# EAGLE library part ESP32-MEZZA25-1 (library JLB6_Processor)
ESP32 2x15 footprint for mezzanie card (N=normal, R=reverse) no ground hole, drill 2.5mm
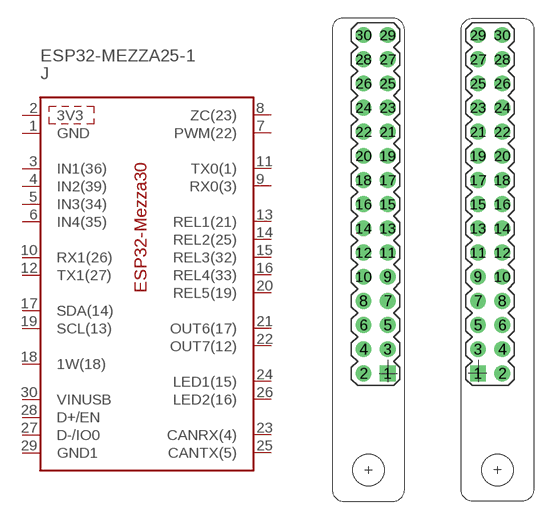
[diagram p42: symbol with the pads of ESP32-MEZZA25-1; footprints ESP32-MEZZA25-1, ESP32-MEZZA25-1R]

Designator prefix J

## ESP32-MEZZA25-1N  [ESP32-MEZZA25-1]
1  GND  pwr
2  3V3
3  IN1(36)
4  IN2(39)
5  IN3(34)
6  IN4(35)
7  PWM(22)
8  ZC(23)
9  RX0(3)
10  RX1(26)
11  TX0(1)
12  TX1(27)
13  REL1(21)
14  REL2(25)
15  REL3(32)
16  REL4(33)
17  SDA(14)
18  1W(18)
19  SCL(13)
20  REL5(19)
21  OUT6(17)
22  OUT7(12)
23  CANRX(4)
24  LED1(15)
25  CANTX(5)
26  LED2(16)
27  D-/IO0
28  D+/EN
29  GND1  pwr
30  VINUSB

## ESP32-MEZZA25-1R  [ESP32-MEZZA25-1R]
Pads as for ESP32-MEZZA25-1

## ESP32-MEZZA25-12  [ESP32-MEZZA25-VR2]
Pads as for ESP32-MEZZA25-1

## ESP32-MEZZA25-13  [ESP32-MEZZA25-VR3]
Pads as for ESP32-MEZZA25-1

## ESP32-MEZZA25-13S  [ESP32-MEZZA25-VR3-SMD]
Pads as for ESP32-MEZZA25-1

## ESP32-MEZZA25-1RNG  [ESP32-MEZZA25-R-NOGND]
Pads as for ESP32-MEZZA25-1

## ESP32-MEZZA25-14S  [ESP32-MEZZA25-VR4-SMD]
Pads as for ESP32-MEZZA25-1

## Footprint ESP32-MEZZA25-1 (pad centres in mm)
drill 0.8 square: 1 0,0
drill 0.8: 2 -2,0; 3 0,2; 4 -2,2; 5 0,4; 6 -2,4; 7 0,6; 8 -2,6; 9 0,8; 10 -2,8; 11 0,10; 12 -2,10; 13 0,12; 14 -2,12; 15 0,14; 16 -2,14; 17 0,16; 18 -2,16; 19 0,18; 20 -2,18; 21 0,20; 22 -2,20; 23 0,22; 24 -2,22; 25 0,24; 26 -2,24; 27 0,26; 28 -2,26; 29 0,28; 30 -2,28
hole 2.6 at -1.6,-8

## Footprint ESP32-MEZZA25-1R (pad centres in mm)
drill 0.8 square: 1 0,0
drill 0.8: 2 2,0; 3 0,2; 4 2,2; 5 0,4; 6 2,4; 7 0,6; 8 2,6; 9 0,8; 10 2,8; 11 0,10; 12 2,10; 13 0,12; 14 2,12; 15 0,14; 16 2,14; 17 0,16; 18 2,16; 19 0,18; 20 2,18; 21 0,20; 22 2,20; 23 0,22; 24 2,22; 25 0,24; 26 2,24; 27 0,26; 28 2,26; 29 0,28; 30 2,28
hole 2.6 at 1.6,-8

## Footprint ESP32-MEZZA25-VR2 (pad centres in mm)
drill 0.8 square: 1 0,0
drill 0.8: 2 -2,0; 3 0,2; 4 -2,2; 5 0,4; 6 -2,4; 7 0,6; 8 -2,6; 9 0,8; 10 -2,8; 11 0,10; 12 -2,10; 13 0,12; 14 -2,12; 15 0,14; 16 -2,14; 17 0,16; 18 -2,16; 19 0,18; 20 -2,18; 21 0,20; 22 -2,20; 23 0,22; 24 -2,22; 25 0,24; 26 -2,24; 27 0,26; 28 -2,26; 29 0,28; 30 -2,28
hole 2.6 at -3.5,-4.6

## Footprint ESP32-MEZZA25-VR3 (pad centres in mm)
drill 0.8 square: 1 0,0
drill 0.8: 2 -2,0; 3 0,2; 4 -2,2; 5 0,4; 6 -2,4; 7 0,6; 8 -2,6; 9 0,8; 10 -2,8; 11 0,10; 12 -2,10; 13 0,12; 14 -2,12; 15 0,14; 16 -2,14; 17 0,16; 18 -2,16; 19 0,18; 20 -2,18; 21 0,20; 22 -2,20; 23 0,22; 24 -2,22; 25 0,24; 26 -2,24; 27 0,26; 28 -2,26; 29 0,28; 30 -2,28
hole 2.6 at -3.5,-4.6

## Footprint ESP32-MEZZA25-VR3-SMD (pad centres in mm)
Mezza smd (obsolete, bad footprint)
smd 2 x 1: 1 1,0; 2 -3,0; 3 1,2; 4 -3,2; 5 1,4; 6 -3,4; 7 1,6; 8 -3,6; 9 1,8; 10 -3,8; 11 1,10; 12 -3,10; 13 1,12; 14 -3,12; 15 1,14; 16 -3,14; 17 1,16; 18 -3,16; 19 1,18; 20 -3,18; 21 1,20; 22 -3,20; 23 1,22; 24 -3,22; 25 1,24; 26 -3,24; 27 1,26; 28 -3,26; 29 1,28; 30 -3,28
hole 2.6 at -3.5,-4.6

## Footprint ESP32-MEZZA25-R-NOGND (pad centres in mm)
drill 0.8 square: 1 0,0
drill 0.8: 2 2,0; 3 0,2; 4 2,2; 5 0,4; 6 2,4; 7 0,6; 8 2,6; 9 0,8; 10 2,8; 11 0,10; 12 2,10; 13 0,12; 14 2,12; 15 0,14; 16 2,14; 17 0,16; 18 2,16; 19 0,18; 20 2,18; 21 0,20; 22 2,20; 23 0,22; 24 2,22; 25 0,24; 26 2,24; 27 0,26; 28 2,26; 29 0,28; 30 2,28
hole 2.6 at 1.6,-8
hole 2.6 at 22,26.8

## Footprint ESP32-MEZZA25-VR4-SMD (pad centres in mm)
smd 2.2 x 1: 1 1.3,0; 2 -3.3,0; 3 1.3,2; 4 -3.3,2; 5 1.3,4; 6 -3.3,4; 7 1.3,6; 8 -3.3,6; 9 1.3,8; 10 -3.3,8; 11 1.3,10; 12 -3.3,10; 13 1.3,12; 14 -3.3,12; 15 1.3,14; 16 -3.3,14; 17 1.3,16; 18 -3.3,16; 19 1.3,18; 20 -3.3,18; 21 1.3,20; 22 -3.3,20; 23 1.3,22; 24 -3.3,22; 25 1.3,24; 26 -3.3,24; 27 1.3,26; 28 -3.3,26; 29 1.3,28; 30 -3.3,28
hole 2.6 at -3.5,-4.6